# Altium footprint library Discrete_Passive.PcbLib: 311 footprints (part 10 of 20)
Each footprint in its own frame and in the unit in brackets; x right, y up, seen from the top. Pads: shape width x height; smd on the part's side, far side on the other; paste and mask are expansions set on the pad; w line width, h text height; cw(c..) or ccw(c..) is an arc to the next point about the centre after c.
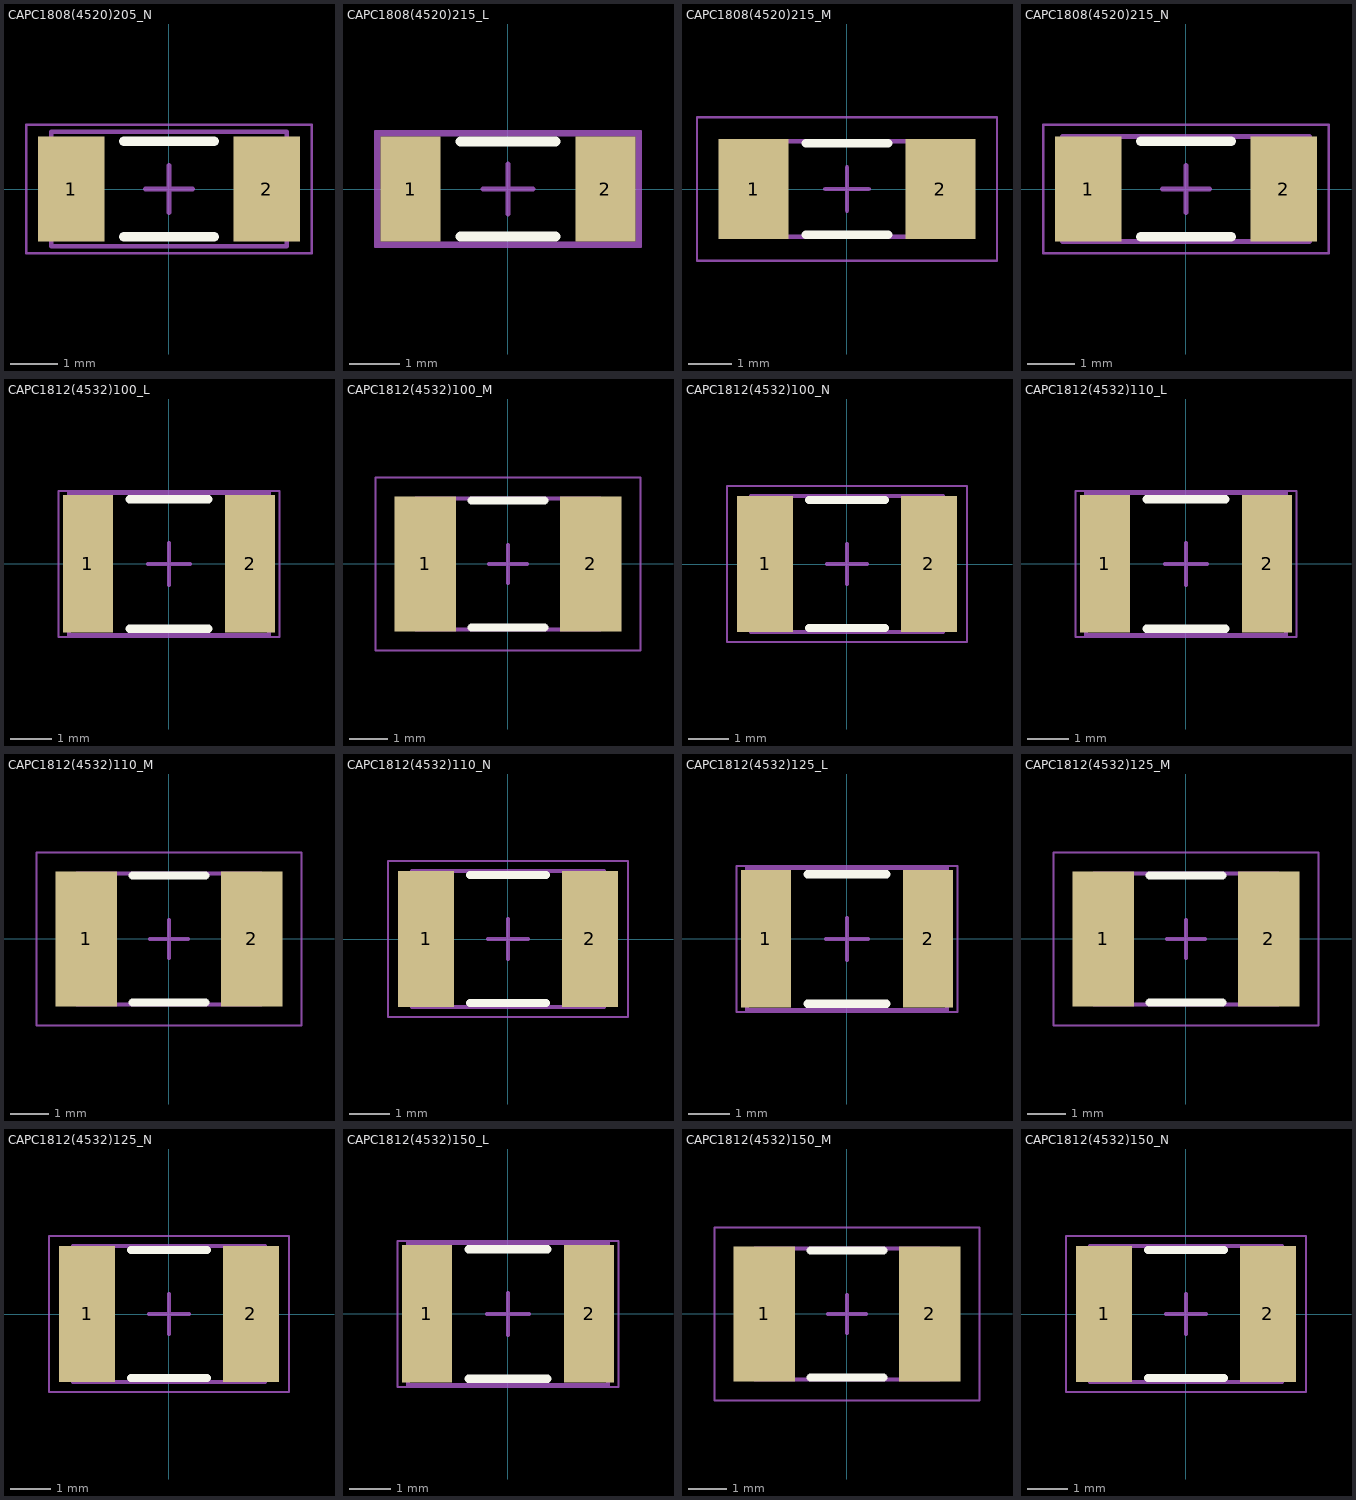
[diagram p9: the footprints below, top view; thin cyan lines are the x and y axes]

## CAPC1808(4520)205_N [mm] "Chip Capacitor, Body 4.5x2.0mm, Height 2.05mm, IPC Medium Density"
height 2.05
pads (2):
  rect 1.4x2.2 smd: 1(-2.05,0) 2(2.05,0)
Top Overlay:
  lines w0.2: -0.95,-1 0.95,-1 ; -0.95,1 0.95,1
Mechanical 13:
  lines w0.1: -2.475,-1.2 2.475,-1.2 2.475,1.2 -2.475,1.2 -2.475,-1.2
Mechanical 15:
  lines w0.05: -3,-1.35 3,-1.35 3,1.35 -3,1.35 -3,-1.35
  lines w0.1: -0.5,0 0.5,0 ; 0,-0.5 0,0.5
3D body: height 2.05, standoff 0, extent 1.975,-1.2 2.475,1.2
3D body: height 2.05, standoff 0, extent -2.475,-1.2 -1.975,1.2
3D body: height 2.05, standoff 0, extent -1.975,-1.2 1.975,1.2

## CAPC1808(4520)215_L [mm] "Chip Capacitor, Body 4.5x2.0mm, Height 2.15mm, IPC High Density"
height 2.15
pads (2):
  rect 1.2x2.1 smd: 1(-1.95,0) 2(1.95,0)
Top Overlay:
  lines w0.2: -0.95,-0.95 0.95,-0.95 ; -0.95,0.95 0.95,0.95
Mechanical 13:
  lines w0.1: -2.6,-1.1 2.6,-1.1 2.6,1.1 -2.6,1.1 -2.6,-1.1
Mechanical 15:
  lines w0.05: -2.65,-1.15 2.65,-1.15 2.65,1.15 -2.65,1.15 -2.65,-1.15
  lines w0.1: -0.5,0 0.5,0 ; 0,-0.5 0,0.5
3D body: height 2.15, standoff 0, extent 2,-1.1 2.6,1.1
3D body: height 2.15, standoff 0, extent -2.6,-1.1 -2,1.1
3D body: height 2.15, standoff 0, extent -2,-1.1 2,1.1

## CAPC1808(4520)215_M [mm] "Chip Capacitor, Body 4.5x2.0mm, Height 2.15mm, IPC Low Density"
height 2.15
pads (2):
  rect 1.6x2.3 smd: 1(-2.15,0) 2(2.15,0)
Top Overlay:
  lines w0.2: -0.95,-1.05 0.95,-1.05 ; -0.95,1.05 0.95,1.05
Mechanical 13:
  lines w0.1: -2.6,-1.1 2.6,-1.1 2.6,1.1 -2.6,1.1 -2.6,-1.1
Mechanical 15:
  lines w0.05: -3.45,-1.65 3.45,-1.65 3.45,1.65 -3.45,1.65 -3.45,-1.65
  lines w0.1: -0.5,0 0.5,0 ; 0,-0.5 0,0.5
3D body: height 2.15, standoff 0, extent 2,-1.1 2.6,1.1
3D body: height 2.15, standoff 0, extent -2.6,-1.1 -2,1.1
3D body: height 2.15, standoff 0, extent -2,-1.1 2,1.1

## CAPC1808(4520)215_N [mm] "Chip Capacitor, Body 4.5x2.0mm, Height 2.15mm, IPC Medium Density"
height 2.15
pads (2):
  rect 1.4x2.2 smd: 1(-2.05,0) 2(2.05,0)
Top Overlay:
  lines w0.2: -0.95,-1 0.95,-1 ; -0.95,1 0.95,1
Mechanical 13:
  lines w0.1: -2.6,-1.1 2.6,-1.1 2.6,1.1 -2.6,1.1 -2.6,-1.1
Mechanical 15:
  lines w0.05: -3,-1.35 3,-1.35 3,1.35 -3,1.35 -3,-1.35
  lines w0.1: -0.5,0 0.5,0 ; 0,-0.5 0,0.5
3D body: height 2.15, standoff 0, extent 2,-1.1 2.6,1.1
3D body: height 2.15, standoff 0, extent -2.6,-1.1 -2,1.1
3D body: height 2.15, standoff 0, extent -2,-1.1 2,1.1

## CAPC1812(4532)100_L [mm] "Chip Capacitor, Body 4.5x3.2mm, Height 1mm, IPC High Density"
height 1
pads (2):
  rect 1.2x3.3 smd: 1(-1.95,0) 2(1.95,0)
Top Overlay:
  lines w0.2: -0.95,-1.55 0.95,-1.55 ; -0.95,1.55 0.95,1.55
Mechanical 13:
  lines w0.1: -2.4,-1.7 2.4,-1.7 2.4,1.7 -2.4,1.7 -2.4,-1.7
Mechanical 15:
  lines w0.05: -2.65,-1.75 2.65,-1.75 2.65,1.75 -2.65,1.75 -2.65,-1.75
  lines w0.1: -0.5,0 0.5,0 ; 0,-0.5 0,0.5
3D body: height 1, standoff 0, extent 1.8,-1.7 2.4,1.7
3D body: height 1, standoff 0, extent -2.4,-1.7 -1.8,1.7
3D body: height 1, standoff 0, extent -1.8,-1.7 1.8,1.7

## CAPC1812(4532)100_M [mm] "Chip Capacitor, Body 4.5x3.2mm, Height 1mm, IPC Low Density"
height 1
pads (2):
  rect 1.6x3.5 smd: 1(-2.15,0) 2(2.15,0)
Top Overlay:
  lines w0.2: -0.95,-1.65 0.95,-1.65 ; -0.95,1.65 0.95,1.65
Mechanical 13:
  lines w0.1: -2.4,-1.7 2.4,-1.7 2.4,1.7 -2.4,1.7 -2.4,-1.7
Mechanical 15:
  lines w0.05: -3.45,-2.25 3.45,-2.25 3.45,2.25 -3.45,2.25 -3.45,-2.25
  lines w0.1: -0.5,0 0.5,0 ; 0,-0.5 0,0.5
3D body: height 1, standoff 0, extent 1.8,-1.7 2.4,1.7
3D body: height 1, standoff 0, extent -2.4,-1.7 -1.8,1.7
3D body: height 1, standoff 0, extent -1.8,-1.7 1.8,1.7

## CAPC1812(4532)100_N [mm] "Chip Capacitor, Body 4.5x3.2mm, Height 1mm, IPC Medium Density"
height 1
pads (2):
  rect 1.4x3.4 smd: 1(-2.05,0) 2(2.05,0)
Top Overlay:
  lines w0.2: -0.95,-1.6 0.95,-1.6 ; -0.95,1.6 0.95,1.6
Mechanical 13:
  lines w0.1: -2.4,-1.7 2.4,-1.7 2.4,1.7 -2.4,1.7 -2.4,-1.7
Mechanical 15:
  lines w0.05: -3,-1.95 3,-1.95 3,1.95 -3,1.95 -3,-1.95
  lines w0.1: -0.5,0 0.5,0 ; 0,-0.5 0,0.5
3D body: height 1, standoff 0, extent 1.8,-1.7 2.4,1.7
3D body: height 1, standoff 0, extent -2.4,-1.7 -1.8,1.7
3D body: height 1, standoff 0, extent -1.8,-1.7 1.8,1.7

## CAPC1812(4532)110_L [mm] "Chip Capacitor, Body 4.5x3.2mm, Height 1.1mm, IPC High Density"
height 1.1
pads (2):
  rect 1.2x3.3 smd: 1(-1.95,0) 2(1.95,0)
Top Overlay:
  lines w0.2: -0.95,-1.55 0.95,-1.55 ; -0.95,1.55 0.95,1.55
Mechanical 13:
  lines w0.1: -2.4,-1.7 2.4,-1.7 2.4,1.7 -2.4,1.7 -2.4,-1.7
Mechanical 15:
  lines w0.05: -2.65,-1.75 2.65,-1.75 2.65,1.75 -2.65,1.75 -2.65,-1.75
  lines w0.1: -0.5,0 0.5,0 ; 0,-0.5 0,0.5
3D body: height 1.1, standoff 0, extent 1.8,-1.7 2.4,1.7
3D body: height 1.1, standoff 0, extent -2.4,-1.7 -1.8,1.7
3D body: height 1.1, standoff 0, extent -1.8,-1.7 1.8,1.7

## CAPC1812(4532)110_M [mm] "Chip Capacitor, Body 4.5x3.2mm, Height 1.1mm, IPC Low Density"
height 1.1
pads (2):
  rect 1.6x3.5 smd: 1(-2.15,0) 2(2.15,0)
Top Overlay:
  lines w0.2: -0.95,-1.65 0.95,-1.65 ; -0.95,1.65 0.95,1.65
Mechanical 13:
  lines w0.1: -2.4,-1.7 2.4,-1.7 2.4,1.7 -2.4,1.7 -2.4,-1.7
Mechanical 15:
  lines w0.05: -3.45,-2.25 3.45,-2.25 3.45,2.25 -3.45,2.25 -3.45,-2.25
  lines w0.1: -0.5,0 0.5,0 ; 0,-0.5 0,0.5
3D body: height 1.1, standoff 0, extent 1.8,-1.7 2.4,1.7
3D body: height 1.1, standoff 0, extent -2.4,-1.7 -1.8,1.7
3D body: height 1.1, standoff 0, extent -1.8,-1.7 1.8,1.7

## CAPC1812(4532)110_N [mm] "Chip Capacitor, Body 4.5x3.2mm, Height 1.1mm, IPC Medium Density"
height 1.1
pads (2):
  rect 1.4x3.4 smd: 1(-2.05,0) 2(2.05,0)
Top Overlay:
  lines w0.2: -0.95,-1.6 0.95,-1.6 ; -0.95,1.6 0.95,1.6
Mechanical 13:
  lines w0.1: -2.4,-1.7 2.4,-1.7 2.4,1.7 -2.4,1.7 -2.4,-1.7
Mechanical 15:
  lines w0.05: -3,-1.95 3,-1.95 3,1.95 -3,1.95 -3,-1.95
  lines w0.1: -0.5,0 0.5,0 ; 0,-0.5 0,0.5
3D body: height 1.1, standoff 0, extent 1.8,-1.7 2.4,1.7
3D body: height 1.1, standoff 0, extent -2.4,-1.7 -1.8,1.7
3D body: height 1.1, standoff 0, extent -1.8,-1.7 1.8,1.7

## CAPC1812(4532)125_L [mm] "Chip Capacitor, Body 4.5x3.2mm, Height 1.25mm, IPC High Density"
height 1.25
pads (2):
  rect 1.2x3.3 smd: 1(-1.95,0) 2(1.95,0)
Top Overlay:
  lines w0.2: -0.95,-1.55 0.95,-1.55 ; -0.95,1.55 0.95,1.55
Mechanical 13:
  lines w0.1: -2.4,-1.7 2.4,-1.7 2.4,1.7 -2.4,1.7 -2.4,-1.7
Mechanical 15:
  lines w0.05: -2.65,-1.75 2.65,-1.75 2.65,1.75 -2.65,1.75 -2.65,-1.75
  lines w0.1: -0.5,0 0.5,0 ; 0,-0.5 0,0.5
3D body: height 1.25, standoff 0, extent 1.8,-1.7 2.4,1.7
3D body: height 1.25, standoff 0, extent -2.4,-1.7 -1.8,1.7
3D body: height 1.25, standoff 0, extent -1.8,-1.7 1.8,1.7

## CAPC1812(4532)125_M [mm] "Chip Capacitor, Body 4.5x3.2mm, Height 1.25mm, IPC Low Density"
height 1.25
pads (2):
  rect 1.6x3.5 smd: 1(-2.15,0) 2(2.15,0)
Top Overlay:
  lines w0.2: -0.95,-1.65 0.95,-1.65 ; -0.95,1.65 0.95,1.65
Mechanical 13:
  lines w0.1: -2.4,-1.7 2.4,-1.7 2.4,1.7 -2.4,1.7 -2.4,-1.7
Mechanical 15:
  lines w0.05: -3.45,-2.25 3.45,-2.25 3.45,2.25 -3.45,2.25 -3.45,-2.25
  lines w0.1: -0.5,0 0.5,0 ; 0,-0.5 0,0.5
3D body: height 1.25, standoff 0, extent 1.8,-1.7 2.4,1.7
3D body: height 1.25, standoff 0, extent -2.4,-1.7 -1.8,1.7
3D body: height 1.25, standoff 0, extent -1.8,-1.7 1.8,1.7

## CAPC1812(4532)125_N [mm] "Chip Capacitor, Body 4.5x3.2mm, Height 1.25mm, IPC Medium Density"
height 1.25
pads (2):
  rect 1.4x3.4 smd: 1(-2.05,0) 2(2.05,0)
Top Overlay:
  lines w0.2: -0.95,-1.6 0.95,-1.6 ; -0.95,1.6 0.95,1.6
Mechanical 13:
  lines w0.1: -2.4,-1.7 2.4,-1.7 2.4,1.7 -2.4,1.7 -2.4,-1.7
Mechanical 15:
  lines w0.05: -3,-1.95 3,-1.95 3,1.95 -3,1.95 -3,-1.95
  lines w0.1: -0.5,0 0.5,0 ; 0,-0.5 0,0.5
3D body: height 1.25, standoff 0, extent 1.8,-1.7 2.4,1.7
3D body: height 1.25, standoff 0, extent -2.4,-1.7 -1.8,1.7
3D body: height 1.25, standoff 0, extent -1.8,-1.7 1.8,1.7

## CAPC1812(4532)150_L [mm] "Chip Capacitor, Body 4.5x3.2mm, Height 1.5mm, IPC High Density"
height 1.5
pads (2):
  rect 1.2x3.3 smd: 1(-1.95,0) 2(1.95,0)
Top Overlay:
  lines w0.2: -0.95,-1.55 0.95,-1.55 ; -0.95,1.55 0.95,1.55
Mechanical 13:
  lines w0.1: -2.4,-1.7 2.4,-1.7 2.4,1.7 -2.4,1.7 -2.4,-1.7
Mechanical 15:
  lines w0.05: -2.65,-1.75 2.65,-1.75 2.65,1.75 -2.65,1.75 -2.65,-1.75
  lines w0.1: -0.5,0 0.5,0 ; 0,-0.5 0,0.5
3D body: height 1.5, standoff 0, extent 1.8,-1.7 2.4,1.7
3D body: height 1.5, standoff 0, extent -2.4,-1.7 -1.8,1.7
3D body: height 1.5, standoff 0, extent -1.8,-1.7 1.8,1.7

## CAPC1812(4532)150_M [mm] "Chip Capacitor, Body 4.5x3.2mm, Height 1.5mm, IPC Low Density"
height 1.5
pads (2):
  rect 1.6x3.5 smd: 1(-2.15,0) 2(2.15,0)
Top Overlay:
  lines w0.2: -0.95,-1.65 0.95,-1.65 ; -0.95,1.65 0.95,1.65
Mechanical 13:
  lines w0.1: -2.4,-1.7 2.4,-1.7 2.4,1.7 -2.4,1.7 -2.4,-1.7
Mechanical 15:
  lines w0.05: -3.45,-2.25 3.45,-2.25 3.45,2.25 -3.45,2.25 -3.45,-2.25
  lines w0.1: -0.5,0 0.5,0 ; 0,-0.5 0,0.5
3D body: height 1.5, standoff 0, extent 1.8,-1.7 2.4,1.7
3D body: height 1.5, standoff 0, extent -2.4,-1.7 -1.8,1.7
3D body: height 1.5, standoff 0, extent -1.8,-1.7 1.8,1.7

## CAPC1812(4532)150_N [mm] "Chip Capacitor, Body 4.5x3.2mm, Height 1.5mm, IPC Medium Density"
height 1.5
pads (2):
  rect 1.4x3.4 smd: 1(-2.05,0) 2(2.05,0)
Top Overlay:
  lines w0.2: -0.95,-1.6 0.95,-1.6 ; -0.95,1.6 0.95,1.6
Mechanical 13:
  lines w0.1: -2.4,-1.7 2.4,-1.7 2.4,1.7 -2.4,1.7 -2.4,-1.7
Mechanical 15:
  lines w0.05: -3,-1.95 3,-1.95 3,1.95 -3,1.95 -3,-1.95
  lines w0.1: -0.5,0 0.5,0 ; 0,-0.5 0,0.5
3D body: height 1.5, standoff 0, extent 1.8,-1.7 2.4,1.7
3D body: height 1.5, standoff 0, extent -2.4,-1.7 -1.8,1.7
3D body: height 1.5, standoff 0, extent -1.8,-1.7 1.8,1.7